# Altium footprint library PcbLib1.PcbLib: 5 footprints
Each footprint in its own frame and in the unit in brackets; x right, y up, seen from the top. Pads: shape width x height; smd on the part's side, far side on the other; paste and mask are expansions set on the pad; w line width, h text height; cw(c..) or ccw(c..) is an arc to the next point about the centre after c.
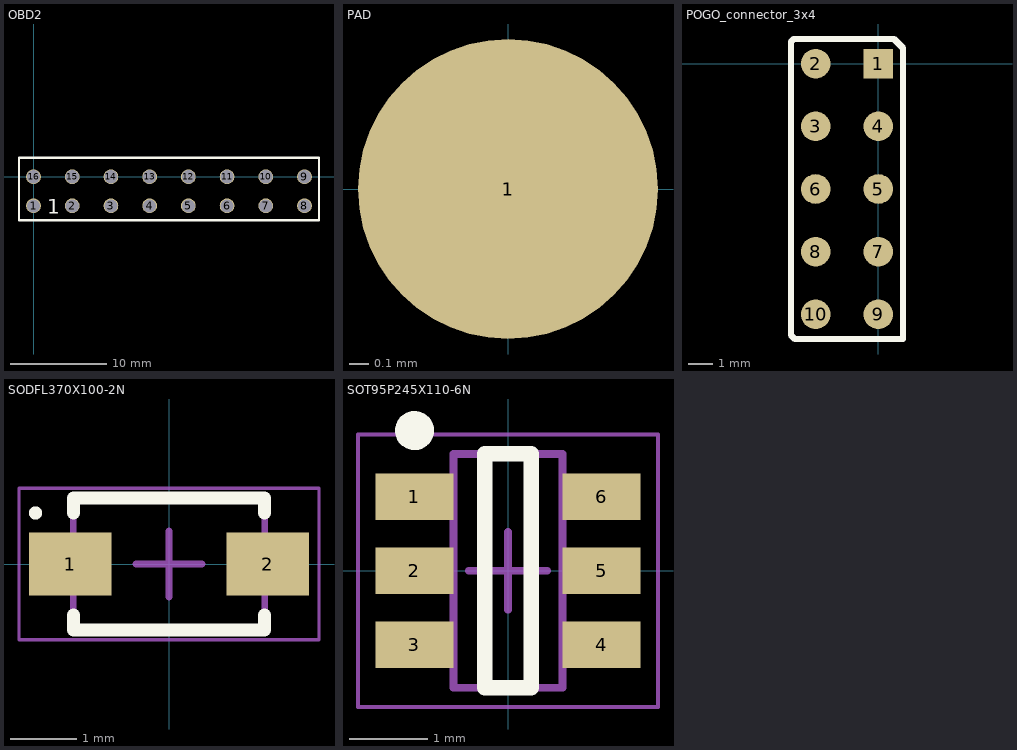
[diagram p0: the footprints below, top view; thin cyan lines are the x and y axes]

## OBD2 [mm]
pads (16):
  round 1.524 hole 1.35: 1(0,-3) 2(4,-3) 3(8,-3) 4(12,-3) 5(16,-3) 6(20,-3) 7(24,-3) 8(28,-3) 9(28,0) 10(24,0) 11(20,0) 12(16,0) 13(12,0) 14(8,0) 15(4,0) 16(0,0)
Top Overlay:
  lines w0.254: -1.5,1.905 -1.5,-4.5 29.5,-4.5 29.5,1.905 ; -1.5,1.975 29.5,1.975
  text "1" at 1.397,-3.81 h1.52
3D body "CR-PG016.stp": height 16.71, standoff -2.41, extent -6.506,-3.438 34.661,22.375

## PAD [mil]
pads (1):
  round 60 smd: 1(0,0)

## POGO_connector_3x4 [mm]
pads (10):
  rect 1.2x1.2 smd: 1(0,0)
  round 1.2 smd: 2(-2.54,0) 3(-2.54,-2.54) 4(0,-2.54) 5(0,-5.08) 6(-2.54,-5.08) 7(0,-7.62) 8(-2.54,-7.62) 9(0,-10.16) 10(-2.54,-10.16)
Top Overlay:
  lines w0.254: -3.54,-11.001 -3.381,-11.16 1,-11.16 1,0.635 0.635,1 -3.429,1 -3.54,0.889 -3.54,-11.001

## SODFL370X100-2N [mm] "SODFL, 2-Leads, Body 1,85x3,70mm, IPC Medium Density"
height 1
pads (2):
  rect 1.25x0.95 smd: 1(-1.5,0) 2(1.5,0)
Top Overlay:
  circle w0.1: c-2.025,0.775 r0.05
  lines w0.2: -1.45,-0.775 -1.45,-1 1.45,-1 1.45,-0.775 ; -1.45,0.775 -1.45,1 1.45,1 1.45,0.775
Mechanical 13:
  lines w0.1: -1.45,-0.975 -1.45,0.975 1.45,0.975 1.45,-0.975 -1.45,-0.975
Mechanical 15:
  lines w0.05: -2.275,-1.15 -2.275,1.15 2.275,1.15 2.275,-1.15 -2.275,-1.15
  lines w0.1: -0.5,0 0.5,0 ; 0,-0.5 0,0.5
3D body "SODFL370X100-2N.step": height 1, standoff 0, extent -1.85,-0.975 1.85,0.975

## SOT95P245X110-6N [mm] "SOT23, 6-Leads, Body 2,90x2,45mm, Pitch 0,95mm, IPC Medium Density"
height 1.1
pads (6):
  rect 1x0.6 smd: 1(-1.2,0.95) 2(-1.2,0) 3(-1.2,-0.95) 4(1.2,-0.95) 5(1.2,0) 6(1.2,0.95)
Top Overlay:
  circle w0.25: c-1.2,1.8 r0.125
  lines w0.2: -0.3,-1.5 0.3,-1.5 0.3,1.5 -0.3,1.5 -0.3,-1.5
Mechanical 13:
  lines w0.1: -0.7,-1.5 -0.7,1.5 0.7,1.5 0.7,-1.5 -0.7,-1.5
Mechanical 15:
  lines w0.05: -1.925,-1.75 -1.925,1.75 1.925,1.75 1.925,-1.75 -1.925,-1.75
  lines w0.1: -0.5,0 0.5,0 ; 0,-0.5 0,0.5
3D body "SOT95P245X110-6N.step": height 1.1, standoff 0, extent -1.3,-1.5 1.3,1.5